# Altium integrated library WP-FLEP.intlib: 8 symbols
Pins are listed as number, name and electrical type; pins without a type are passive.

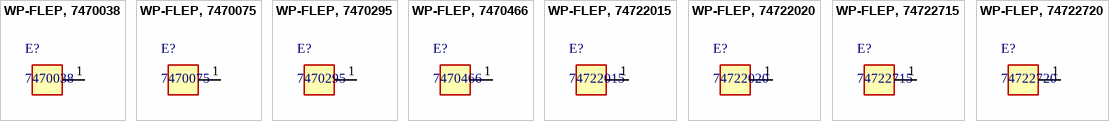
[diagram p0: symbols WP-FLEP, 7470038 to WP-FLEP, 74722720]

## WP-FLEP, 7470038
designator E?, comment 7470038
WP-FLEP Power Elements with flexible Pins, M4, nut; Manufacturer: Wurth Elektronik; partNo: 7470038; ComponentLink1Description: Manufacturer; ComponentLink1URL: http://www.we-online.de; Created by: Baojun Chen; Created Date: Dec.2015; ComponentLink2Description: Datasheet; ComponentLink2URL: http://katalog.we-online.de/em/datasheet/7470038.pdf
footprint 7470038 (M4, nut)
pins: 1

## WP-FLEP, 7470075
designator E?, comment 7470075
WP-FLEP Power Elements with flexible Pins, M5, nut; Manufacturer: Wurth Elektronik; partNo: 7470075; ComponentLink1Description: Manufacturer; ComponentLink1URL: http://www.we-online.de; Created by: Baojun Chen; Created Date: Dec.2015; ComponentLink2Description: Datasheet; ComponentLink2URL: http://katalog.we-online.de/em/datasheet/7470075.pdf
footprint 7470075 (M5, nut)
pins: 1

## WP-FLEP, 7470295
designator E?, comment 7470295
WP-FLEP Power Elements with flexible Pins, M4, nut and faston; Manufacturer: Wurth Elektronik; partNo: 7470295; ComponentLink1Description: Manufacturer; ComponentLink1URL: http://www.we-online.de; Created by: Baojun Chen; Created Date: Dec.2015; ComponentLink2Description: Datasheet; ComponentLink2URL: http://katalog.we-online.de/em/datasheet/7470295.pdf
footprint 7470295 (M4, nut and faston)
pins: 1

## WP-FLEP, 7470466
designator E?, comment 7470466
WP-FLEP Power Elements with flexible Pins, M5, nut and faston; Manufacturer: Wurth Elektronik; partNo: 7470466; ComponentLink1Description: Manufacturer; ComponentLink1URL: http://www.we-online.de; Created by: Baojun Chen; Created Date: Dec.2015; ComponentLink2Description: Datasheet; ComponentLink2URL: http://katalog.we-online.de/em/datasheet/7470466.pdf
footprint 7470466 (M5, nut and faston)
pins: 1

## WP-FLEP, 74722015
designator E?, comment 74722015
WP-FLEP Power Elements with flexible Pins, 4.2mm, no nut; Manufacturer: Wurth Elektronik; partNo: 74722015; ComponentLink1Description: Manufacturer; ComponentLink1URL: http://www.we-online.de; Created by: Baojun Chen; Created Date: Dec.2015; ComponentLink2Description: Datasheet; ComponentLink2URL: http://katalog.we-online.de/em/datasheet/74722015.pdf
footprint 74722015 (4.2mm, no nut)
pins: 1

## WP-FLEP, 74722020
designator E?, comment 74722020
WP-FLEP Power Elements with flexible Pins, 5.2mm, no nut; Manufacturer: Wurth Elektronik; partNo: 74722020; ComponentLink1Description: Manufacturer; ComponentLink1URL: http://www.we-online.de; Created by: Baojun Chen; Created Date: Dec.2015; ComponentLink2Description: Datasheet; ComponentLink2URL: http://katalog.we-online.de/em/datasheet/74722020.pdf
footprint 74722020 (5.2mm, no nut)
pins: 1

## WP-FLEP, 74722715
designator E?, comment 74722715
WP-FLEP Power Elements with flexible Pins, 4.2mm, faston, no nut; Manufacturer: Wurth Elektronik; partNo: 74722715; ComponentLink1Description: Manufacturer; ComponentLink1URL: http://www.we-online.de; Created by: Baojun Chen; Created Date: Dec.2015; ComponentLink2Description: Datasheet; ComponentLink2URL: http://katalog.we-online.de/em/datasheet/74722715.pdf
footprint 74722715 (4.2mm, faston, no nut)
pins: 1

## WP-FLEP, 74722720
designator E?, comment 74722720
WP-FLEP Power Elements with flexible Pins, 5.2mm, faston, no nut; Manufacturer: Wurth Elektronik; partNo: 74722720; ComponentLink1Description: Manufacturer; ComponentLink1URL: http://www.we-online.de; Created by: Baojun Chen; Created Date: Dec.2015; ComponentLink2Description: Datasheet; ComponentLink2URL: http://katalog.we-online.de/em/datasheet/74722720.pdf
footprint 74722720 (5.2mm, faston, no nut)
pins: 1